# EAGLE library part RJ45_AMP (library OpenMotics)
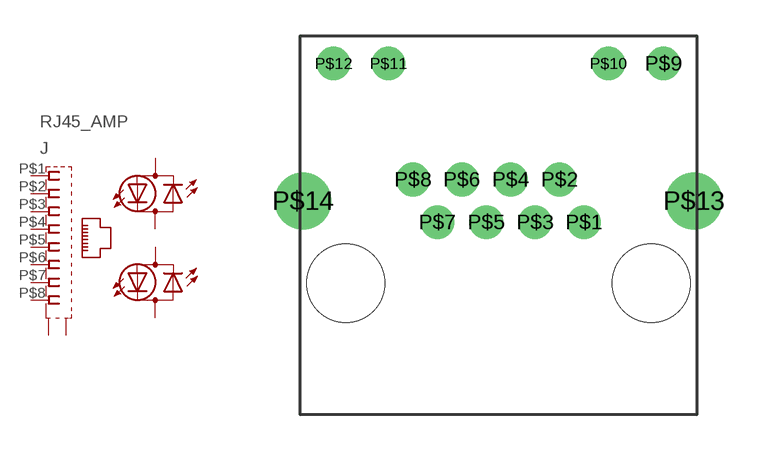
[diagram p2: symbol with the pads of RJ45_AMP; footprint RJ45_AMP]

Designator prefix J

## RJ45_AMP  [RJ45_AMP]
P$1  1  pas
P$2  2  pas
P$3  3  pas
P$4  4  pas
P$5  5  pas
P$6  6  pas
P$7  7  pas
P$8  8  pas
P$9  C1  pas
P$10  A1  pas
P$11  C  pas
P$12  A  pas
P$13  S1  pas
P$14  S2  pas

## Footprint RJ45_AMP (pad centres in mm)
drill 0.889 round: P$1 3.556,2.54; P$2 2.54,4.318; P$3 1.524,2.54; P$4 0.508,4.318; P$5 -0.508,2.54; P$6 -1.524,4.318; P$7 -2.54,2.54; P$8 -3.556,4.318; P$9 6.858,9.144; P$10 4.572,9.144; P$11 -4.572,9.144; P$12 -6.858,9.144
drill 1.575 round: P$13 8.128,3.429; P$14 -8.128,3.429
hole 3.25 at -6.35,0
hole 3.25 at 6.35,0